# Altium footprint library ATmega16U.PcbLib: 2 footprints
Each footprint in its own frame and in the unit in brackets; x right, y up, seen from the top. Pads: shape width x height; smd on the part's side, far side on the other; paste and mask are expansions set on the pad; w line width, h text height; cw(c..) or ccw(c..) is an arc to the next point about the centre after c.
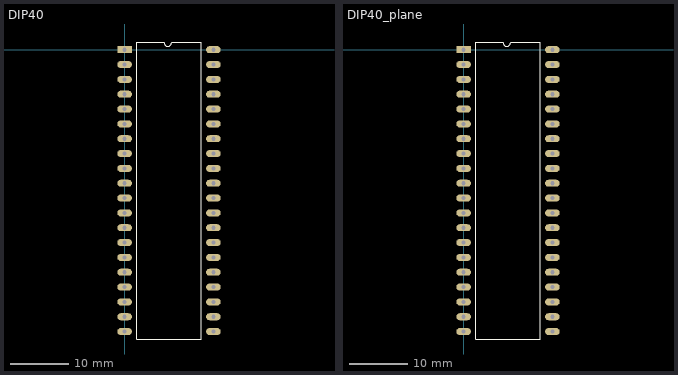
[diagram p0: the footprints below, top view; thin cyan lines are the x and y axes]

## DIP40 [mm]
pads (40):
  rect 2.5x1.2 hole 0.7: 1(0,0)
  oval 2.5x1.2 hole 0.7: 2(0,-2.54) 3(0,-5.08) 4(0,-7.62) 5(0,-10.16) 6(0,-12.7) 7(0,-15.24) 8(0,-17.78) 9(0,-20.32) 10(0,-22.86) 11(0,-25.4) 12(0,-27.94) 13(0,-30.48) 14(0,-33.02) 15(0,-35.56) 16(0,-38.1) 17(0,-40.64) 18(0,-43.18) 19(0,-45.72) 20(0,-48.26) 21(15.2,-48.26) 22(15.2,-45.72) 23(15.2,-43.18) 24(15.2,-40.64) 25(15.2,-38.1) 26(15.2,-35.56) 27(15.2,-33.02) 28(15.2,-30.48) 29(15.2,-27.94) 30(15.2,-25.4) 31(15.2,-22.86) 32(15.2,-20.32) 33(15.2,-17.78) 34(15.2,-15.24) 35(15.2,-12.7) 36(15.2,-10.16) 37(15.2,-7.62) 38(15.2,-5.08) 39(15.2,-2.54) 40(15.2,0)
Top Overlay:
  lines w0.2: 6.75,1.27 2.085,1.27 2.085,-49.53 13.1,-49.53 13.1,1.27 8.05,1.27 ; 6.765,1.2 ccw(c7.4,1.2) 8.035,1.2
3D body: height 8, standoff -3.23, extent -1.225,-50.235 16.475,2.025

## DIP40_plane [mm]
pads (40):
  rect 2.5x1.2 hole 0.7: 1(0,0)
  oval 2.5x1.2 hole 0.7: 2(0,-2.54) 3(0,-5.08) 4(0,-7.62) 5(0,-10.16) 6(0,-12.7) 7(0,-15.24) 8(0,-17.78) 9(0,-20.32) 10(0,-22.86) 11(0,-25.4) 12(0,-27.94) 13(0,-30.48) 14(0,-33.02) 15(0,-35.56) 16(0,-38.1) 17(0,-40.64) 18(0,-43.18) 19(0,-45.72) 20(0,-48.26) 21(15.2,-48.26) 22(15.2,-45.72) 23(15.2,-43.18) 24(15.2,-40.64) 25(15.2,-38.1) 26(15.2,-35.56) 27(15.2,-33.02) 28(15.2,-30.48) 29(15.2,-27.94) 30(15.2,-25.4) 31(15.2,-22.86) 32(15.2,-20.32) 33(15.2,-17.78) 34(15.2,-15.24) 35(15.2,-12.7) 36(15.2,-10.16) 37(15.2,-7.62) 38(15.2,-5.08) 39(15.2,-2.54) 40(15.2,0)
Top Overlay:
  lines w0.2: 6.75,1.27 2.085,1.27 2.085,-49.53 13.1,-49.53 13.1,1.27 8.05,1.27 ; 6.765,1.2 ccw(c7.4,1.2) 8.035,1.2
3D body: height 4.95, standoff -2.4, extent -0.14,-50.235 15.39,2.025